# EAGLE library part DDX-8229 (library apogee)
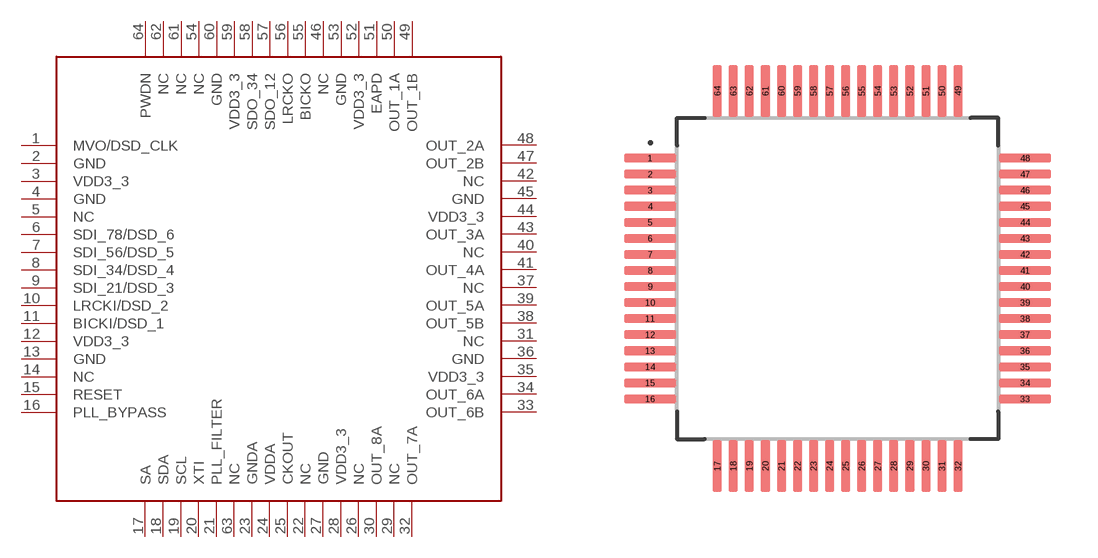
[diagram p0: symbol with the pads of QFP50P1230X1230X160-64; footprint QFP50P1230X1230X160-64]

Designator prefix -

## DDX-8229DDX8229  [QFP50P1230X1230X160-64]
1  MVO/DSD_CLK  in
2  GND  pwr
3  VDD3_3  pwr
4  GND  pwr
5  NC  nc
6  SDI_78/DSD_6  in
7  SDI_56/DSD_5  in
8  SDI_34/DSD_4  in
9  SDI_21/DSD_3
10  LRCKI/DSD_2  in
11  BICKI/DSD_1  in
12  VDD3_3  pwr
13  GND  pwr
14  NC  in
15  RESET  in
16  PLL_BYPASS  out
17  SA  out
18  SDA
19  SCL  in
20  XTI  in
21  PLL_FILTER  in
22  NC  in
23  GNDA  pwr
24  VDDA  pwr
25  CKOUT  out
26  NC  in
27  GND  pwr
28  VDD3_3  pwr
29  NC  nc
30  OUT_8A  out
31  NC  in
32  OUT_7A  out
33  OUT_6B  out
34  OUT_6A
35  VDD3_3  pwr
36  GND  pwr
37  NC  in
38  OUT_5B  out
39  OUT_5A  out
40  NC  in
41  OUT_4A
42  NC  nc
43  OUT_3A  out
44  VDD3_3  pwr
45  GND  pwr
46  NC  in
47  OUT_2B
48  OUT_2A  out
49  OUT_1B  out
50  OUT_1A  out
51  EAPD
52  VDD3_3  pwr
53  GND  pwr
54  NC  nc
55  BICKO
56  LRCKO  out
57  SDO_12  out
58  SDO_34  out
59  VDD3_3  pwr
60  GND  pwr
61  NC  nc
62  NC  nc
63  NC  in
64  PWDN  in

## Footprint QFP50P1230X1230X160-64 (pad centres in mm)
64-QFP, 0.5 mm pitch, 12.3 mm span, 10 X 10 X 1.6 mm body 64-pin QFP package with 0.5 mm pitch, 12.3 mm lead span1 X 12.3 mm lead span2 with body size 10 X 10 X 1.6 mm
smd 1.629 x 0.29: 1 -5.841,3.75; 2 -5.841,3.25; 3 -5.841,2.75; 4 -5.841,2.25; 5 -5.841,1.75; 6 -5.841,1.25; 7 -5.841,0.75; 8 -5.841,0.25; 9 -5.841,-0.25; 10 -5.841,-0.75; 11 -5.841,-1.25; 12 -5.841,-1.75; 13 -5.841,-2.25; 14 -5.841,-2.75; 15 -5.841,-3.25; 16 -5.841,-3.75; 33 5.841,-3.75; 34 5.841,-3.25; 35 5.841,-2.75; 36 5.841,-2.25; 37 5.841,-1.75; 38 5.841,-1.25; 39 5.841,-0.75; 40 5.841,-0.25; 41 5.841,0.25; 42 5.841,0.75; 43 5.841,1.25; 44 5.841,1.75; 45 5.841,2.25; 46 5.841,2.75; 47 5.841,3.25; 48 5.841,3.75
smd 0.29 x 1.629: 17 -3.75,-5.841; 18 -3.25,-5.841; 19 -2.75,-5.841; 20 -2.25,-5.841; 21 -1.75,-5.841; 22 -1.25,-5.841; 23 -0.75,-5.841; 24 -0.25,-5.841; 25 0.25,-5.841; 26 0.75,-5.841; 27 1.25,-5.841; 28 1.75,-5.841; 29 2.25,-5.841; 30 2.75,-5.841; 31 3.25,-5.841; 32 3.75,-5.841; 49 3.75,5.841; 50 3.25,5.841; 51 2.75,5.841; 52 2.25,5.841; 53 1.75,5.841; 54 1.25,5.841; 55 0.75,5.841; 56 0.25,5.841; 57 -0.25,5.841; 58 -0.75,5.841; 59 -1.25,5.841; 60 -1.75,5.841; 61 -2.25,5.841; 62 -2.75,5.841; 63 -3.25,5.841; 64 -3.75,5.841